# EAGLE library part DF13A-20DP (library Con_Hirose_Df13)
DF13-20DP Double row, 1.25mm Pitch Miniature Crimping Connector.
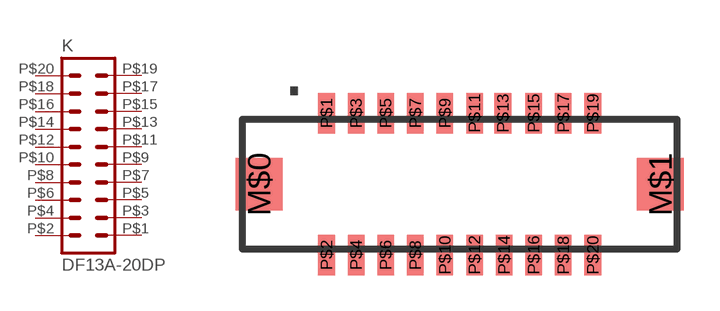
[diagram p12: symbol with the pads of DF13A-20DP-1.25V; footprint DF13A-20DP-1.25V]

Designator prefix K

## DF13A-20DP20DP-1.25V  [DF13A-20DP-1.25V]
P$1  1  pas
P$2  2  pas
P$3  3  pas
P$4  4  pas
P$5  5  pas
P$6  6  pas
P$7  7  pas
P$8  8  pas
P$9  9  pas
P$10  10  pas
P$11  11  pas
P$12  12  pas
P$13  13  pas
P$14  14  pas
P$15  15  pas
P$16  16  pas
P$17  17  pas
P$18  18  pas
P$19  19  pas
P$20  20  pas

## Footprint DF13A-20DP-1.25V (pad centres in mm)
Double Row Straight Pin Header (SMT)
smd 2 x 2.2: M$0 -8.475,0; M$1 8.475,0
smd 0.7 x 1.7: P$1 -5.625,3; P$2 -5.625,-3; P$3 -4.375,3; P$4 -4.375,-3; P$5 -3.125,3; P$6 -3.125,-3; P$7 -1.875,3; P$8 -1.875,-3; P$9 -0.625,3; P$10 -0.625,-3; P$11 0.625,3; P$12 0.625,-3; P$13 1.825,3; P$14 1.875,-3; P$15 3.125,3; P$16 3.125,-3; P$17 4.375,3; P$18 4.375,-3; P$19 5.625,3; P$20 5.625,-3